# EAGLE library part ORG1411 (library gps_tracker)
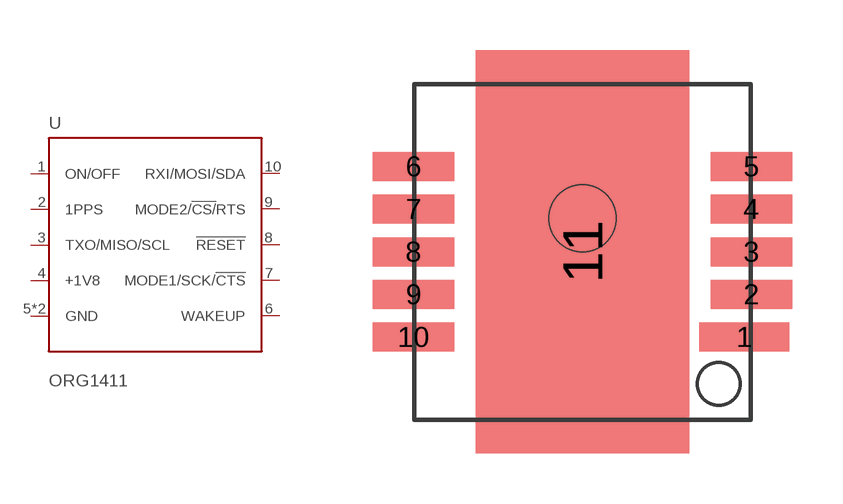
[diagram p0: symbol with the pads of ORG1411; footprint ORG1411]

Designator prefix U

## ORG1411  [ORG1411]
1  ON/OFF  in
2  1PPS  out
3  TXO/MISO/SCL
4  +1V8  pwr
5  GND  pwr
6  WAKEUP  out
7  MODE1/SCK/!CTS
8  !RESET  in
9  MODE2/!CS/!RTS
10  RXI/MOSI/SDA
11  GND  pwr

## Footprint ORG1411 (pad centres in mm)
Package 1216, 24-pads Size: 12 mm x 16 mm x 1.8 mm 24 SMD edge-castellation pads, 1.1 mm pad-pitch by Trimble Navigation Ltd, Embedded Systems Group <http://www.trimble.com/embeddedsystems/> Used for: Condor C1216 Created by Trimble Navigation Ltd, Author: Christian Voit <mailto:christian_voit@trimble.com?subject=Trimble Eagle Library>
smd 2.676 x 0.864: 1 4.818,-2.54
smd 2.422 x 0.864: 2 5.025,-1.27; 3 5.025,0; 4 5.025,1.27; 5 5.025,2.54; 6 -5.025,2.54; 7 -5.025,1.27; 8 -5.025,0; 9 -5.025,-1.27; 10 -5.025,-2.54
smd 6.35 x 12: 11 0,0
hole 2 at 0,1